# Altium schematic symbol library schlib_by_wjy.SchLib: 39 symbols
Pins are listed as number, name and electrical type; pins without a type are passive.

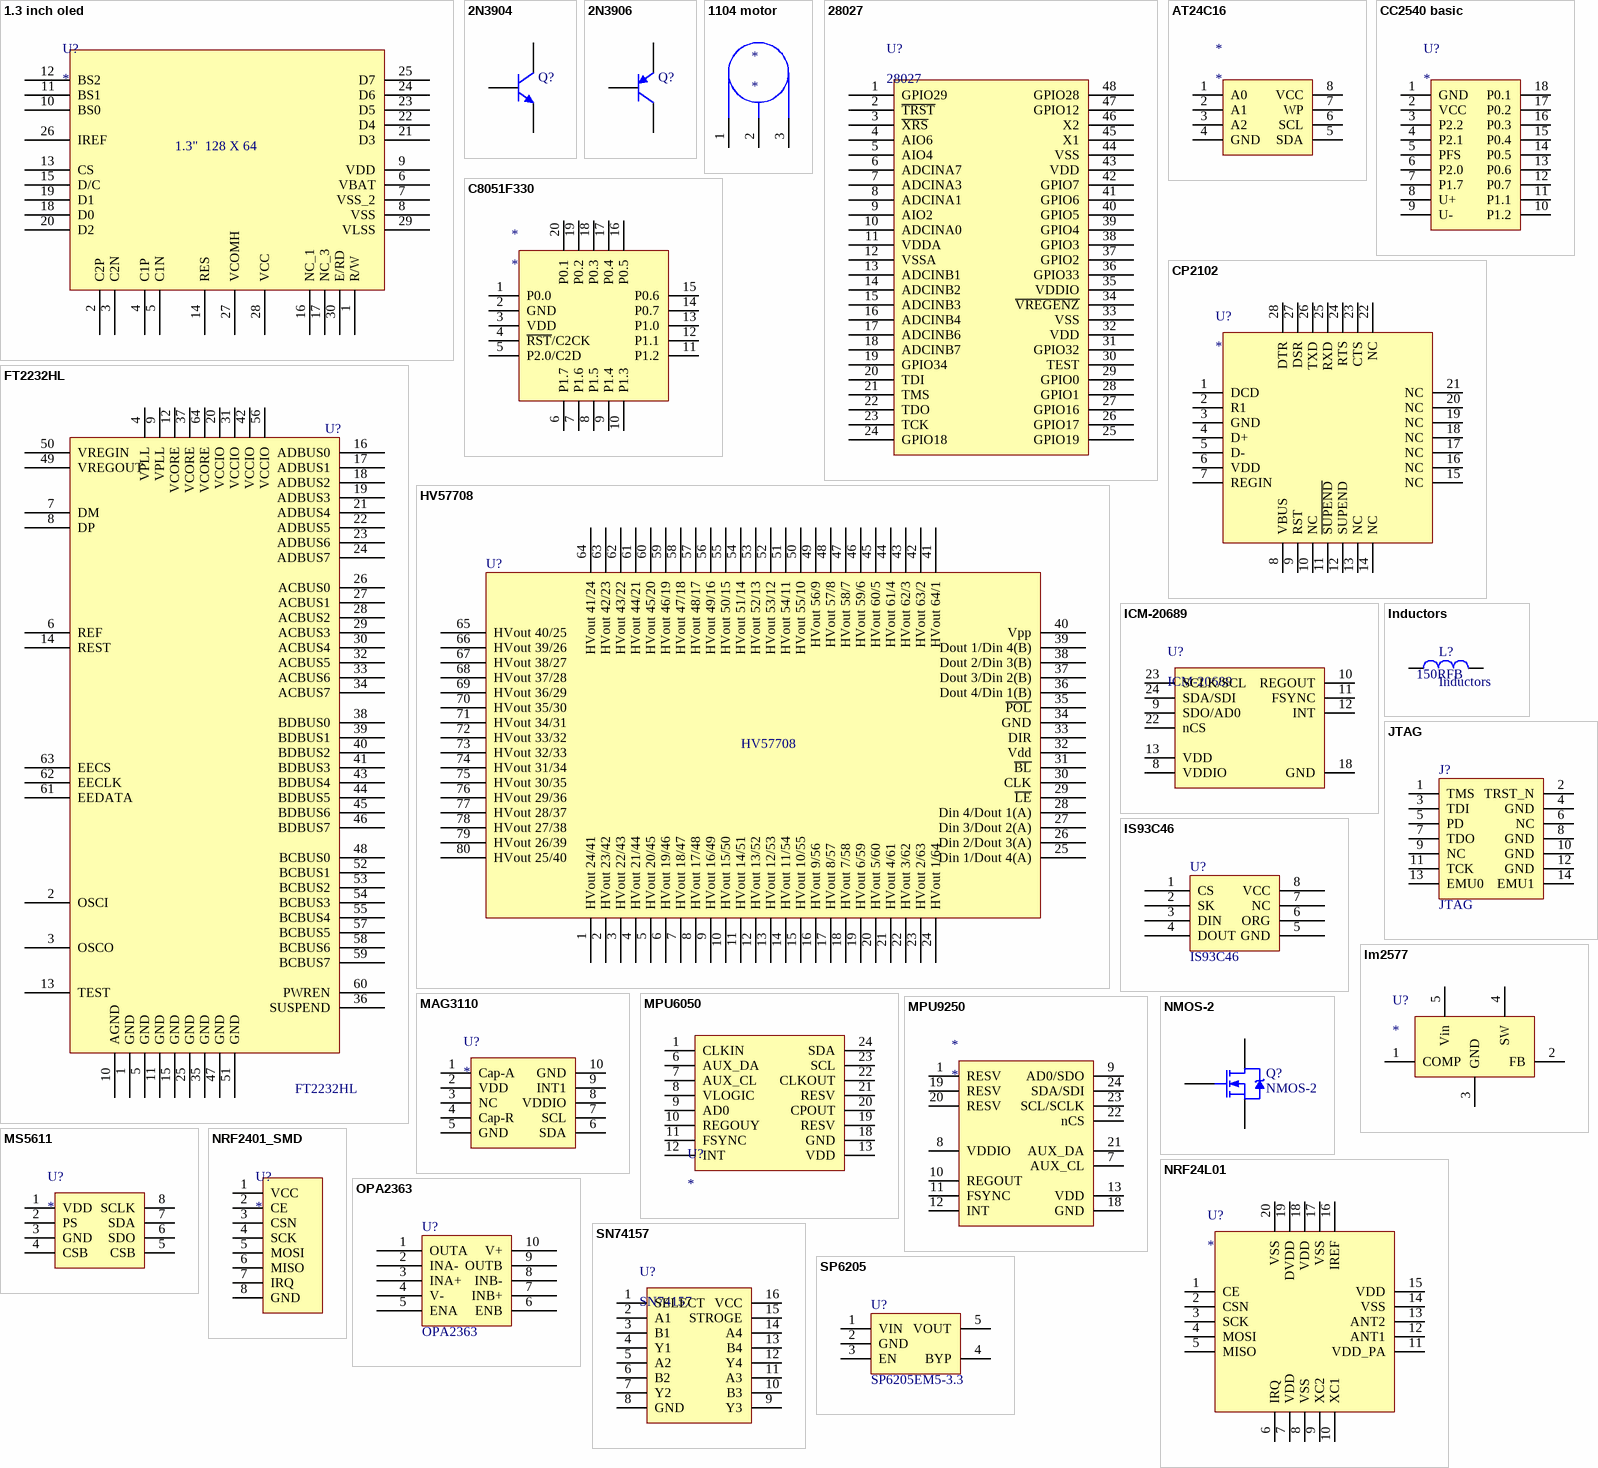
[diagram p0: symbols 1.3 inch oled to SP6205]

## 1.3 inch oled
designator U?
footprint OLED (Footprint not found)
pins: 1 R/W, 2 C2P, 3 C2N, 4 C1P, 5 C1N, 6 VBAT, 7 VSS_2, 8 VSS, 9 VDD, 10 BS0, 11 BS1, 12 BS2, 13 CS, 14 RES, 15 D/C, 16 NC_1, 17 NC_3, 18 D0, 19 D1, 20 D2, 21 D3, 22 D4, 23 D5, 24 D6, 25 D7, 26 IREF, 27 VCOMH, 28 VCC, 29 VLSS, 30 E/RD
text: 1.3"  128 X 64

## 2N3904
designator Q?
NPN General Purpose Amplifier; Published: 8-Jun-2000; LatestRevisionDate: 15-Jan-2003; LatestRevisionNote: PCB Footprint 'BCY-W3/D4.7' replaced; DatasheetDocument: 1997; PackageDocument: Sep-1998; PackageReference: TO-92A; Publisher: Altium Limited; Code_JEDEC: TO-92A; ComponentLink1Description: Manufacturer Link; ComponentLink1URL: http://www.fairchildsemi.com/; ComponentLink2Description: Datasheet; ComponentLink2URL: http://www.fairchildsemi.com/ds/2N%2F2N3904.pdf
footprint SOT23 (SOT-23; 3 Leads; Body 3.1 x 2.5 mm, inc. leads (LxW max), Alternate Lead Configuration)
pins: 1 B, 2 E, 3 C

## 2N3906
designator Q?
PNP General Purpose Amplifier; Published: 8-Jun-2000; LatestRevisionDate: 15-Jan-2003; LatestRevisionNote: PCB Footprint 'BCY-W3/D4.7' replaced; DatasheetDocument: 1997; PackageDocument: Sep-1998; PackageReference: TO-92A; Publisher: Altium Limited; Code_JEDEC: TO-92A; ComponentLink1Description: Manufacturer Link; ComponentLink1URL: http://www.fairchildsemi.com/; ComponentLink2Description: Datasheet; ComponentLink2URL: http://www.fairchildsemi.com/ds/2N%2F2N3906.pdf
footprint SOT23 (SOT-23; 3 Leads; Body 3.1 x 2.5 mm, inc. leads (LxW max), Alternate Lead Configuration)
pins: 1 B, 2 E, 3 C

## 1104 motor
designator *
pins: 1, 2, 3

## 28027
designator U?
footprint LQFP48
pins: 1 GPIO29, 2 ~{TRST}, 3 ~{XRS}, 4 AIO6, 5 AIO4, 6 ADCINA7, 7 ADCINA3, 8 ADCINA1, 9 AIO2, 10 ADCINA0, 11 VDDA, 12 VSSA, 13 ADCINB1, 14 ADCINB2, 15 ADCINB3, 16 ADCINB4, 17 ADCINB6, 18 ADCINB7, 19 GPIO34, 20 TDI, 21 TMS, 22 TDO, 23 TCK, 24 GPIO18, 25 GPIO19, 26 GPIO17, 27 GPIO16, 28 GPIO1, 29 GPIO0, 30 TEST, 31 GPIO32, 32 VDD, 33 VSS, 34 ~{VREGENZ}, 35 VDDIO, 36 GPIO33, 37 GPIO2, 38 GPIO3, 39 GPIO4, 40 GPIO5, 41 GPIO6, 42 GPIO7, 43 VDD, 44 VSS, 45 X1, 46 X2, 47 GPIO12, 48 GPIO28

## AT24C16
designator *
footprint SO8 (Small Outline; 8 Leads; Body Width 3.9 mm; Pitch 1.27 mm)
pins: 1 A0, 2 A1, 3 A2, 4 GND, 5 SDA, 6 SCL, 7 WP, 8 VCC

## C8051F330
designator *
footprint QFN20
pins: 1 P0.0, 2 GND, 3 VDD, 4 ~{RST}/C2CK, 5 P2.0/C2D, 6 P1.7, 7 P1.6, 8 P1.5, 9 P1.4, 10 P1.3, 11 P1.2, 12 P1.1, 13 P1.0, 14 P0.7, 15 P0.6, 16 P0.5, 17 P0.4, 18 P0.3, 19 P0.2, 20 P0.1

## CC2540 basic
designator U?
footprint CC2540 B
pins: 1 GND, 2 VCC, 3 P2.2, 4 P2.1, 5 PFS, 6 P2.0, 7 P1.7, 8 U+, 9 U-, 10 P1.2, 11 P1.1, 12 P0.7, 13 P0.6, 14 P0.5, 15 P0.4, 16 P0.3, 17 P0.2, 18 P0.1

## CP2102
designator U?
footprint QFN28
pins: 1 DCD, 2 R1, 3 GND, 4 D+, 5 D-, 6 VDD, 7 REGIN, 8 VBUS, 9 RST, 10 NC, 11 ~{SUPEND}, 12 SUPEND, 13 NC, 14 NC, 15 NC, 16 NC, 17 NC, 18 NC, 19 NC, 20 NC, 21 NC, 22 NC, 23 CTS, 24 RTS, 25 RXD, 26 TXD, 27 DSR, 28 DTR

## FT2232HL
designator U?
footprint FT2232HL (TSQFP, 64-Leads, Body 12.2x12.2mm (max), Pitch 0.50mm, IPC Medium Density)
pins: 1 GND, 2 OSCI, 3 OSCO, 4 VPLL, 5 GND, 6 REF, 7 DM, 8 DP, 9 VPLL, 10 AGND, 11 GND, 12 VCORE, 13 TEST, 14 REST, 15 GND, 16 ADBUS0, 17 ADBUS1, 18 ADBUS2, 19 ADBUS3, 20 VCCIO, 21 ADBUS4, 22 ADBUS5, 23 ADBUS6, 24 ADBUS7, 25 GND, 26 ACBUS0, 27 ACBUS1, 28 ACBUS2, 29 ACBUS3, 30 ACBUS4, 31 VCCIO, 32 ACBUS5, 33 ACBUS6, 34 ACBUS7, 35 GND, 36 SUSPEND, 37 VCORE, 38 BDBUS0, 39 BDBUS1, 40 BDBUS2, 41 BDBUS3, 42 VCCIO, 43 BDBUS4, 44 BDBUS5, 45 BDBUS6, 46 BDBUS7, 47 GND, 48 BCBUS0, 49 VREGOUT, 50 VREGIN, 51 GND, 52 BCBUS1, 53 BCBUS2, 54 BCBUS3, 55 BCBUS4, 56 VCCIO, 57 BCBUS5, 58 BCBUS6, 59 BCBUS7, 60 PWREN, 61 EEDATA, 62 EECLK, 63 EECS, 64 VCORE

## HV57708
designator U?
4*16-Bit shift register
footprint PQFP80
pins: 1 HVout 24/41, 2 HVout 23/42, 3 HVout 22/43, 4 HVout 21/44, 5 HVout 20/45, 6 HVout 19/46, 7 HVout 18/47, 8 HVout 17/48, 9 HVout 16/49, 10 HVout 15/50, 11 HVout 14/51, 12 HVout 13/52, 13 HVout 12/53, 14 HVout 11/54, 15 HVout 10/55, 16 HVout 9/56, 17 HVout 8/57, 18 HVout 7/58, 19 HVout 6/59, 20 HVout 5/60, 21 HVout 4/61, 22 HVout 3/62, 23 HVout 2/63, 24 HVout 1/64, 25 Din 1/Dout 4(A), 26 Din 2/Dout 3(A), 27 Din 3/Dout 2(A), 28 Din 4/Dout 1(A), 29 ~{LE}, 30 CLK, 31 ~{BL}, 32 Vdd, 33 DIR, 34 GND, 35 ~{POL}, 36 Dout 4/Din 1(B), 37 Dout 3/Din 2(B), 38 Dout 2/Din 3(B), 39 Dout 1/Din 4(B), 40 Vpp, 41 HVout 64/1, 42 HVout 63/2, 43 HVout 62/3, 44 HVout 61/4, 45 HVout 60/5, 46 HVout 59/6, 47 HVout 58/7, 48 HVout 57/8, 49 HVout 56/9, 50 HVout 55/10, 51 HVout 54/11, 52 HVout 53/12, 53 HVout 52/13, 54 HVout 51/14, 55 HVout 50/15, 56 HVout 49/16, 57 HVout 48/17, 58 HVout 47/18, 59 HVout 46/19, 60 HVout 45/20, 61 HVout 44/21, 62 HVout 43/22, 63 HVout 42/23, 64 HVout 41/24, 65 HVout 40/25, 66 HVout 39/26, 67 HVout 38/27, 68 HVout 37/28, 69 HVout 36/29, 70 HVout 35/30, 71 HVout 34/31, 72 HVout 33/32, 73 HVout 32/33, 74 HVout 31/34, 75 HVout 30/35, 76 HVout 29/36, 77 HVout 28/37, 78 HVout 27/38, 79 HVout 26/39, 80 HVout 25/40

## ICM-20689
designator U?
footprint QFN24
pins: 8 VDDIO, 9 SDO/AD0, 10 REGOUT, 11 FSYNC, 12 INT, 13 VDD, 18 GND, 22 nCS, 23 SCLK/SCL, 24 SDA/SDI

## Inductors
designator L?  value 150RFB
footprint r0603 (R0603)
pins: 1, 2

## IS93C46
designator U?
footprint AT93C46
pins: 1 CS, 2 SK, 3 DIN, 4 DOUT, 5 GND, 6 ORG, 7 NC, 8 VCC

## JTAG
designator J?
footprint JTAG
pins: 1 TMS, 2 TRST_N, 3 TDI, 4 GND, 5 PD, 6 NC, 7 TDO, 8 GND, 9 NC, 10 GND, 11 TCK, 12 GND, 13 EMU0, 14 EMU1

## lm2577
designator U?
footprint TO-263
pins: 1 COMP, 2 FB, 3 GND, 4 SW, 5 Vin

## MAG3110
designator U?
footprint DFN10
pins: 1 Cap-A, 2 VDD, 3 NC, 4 Cap-R, 5 GND, 6 SDA, 7 SCL, 8 VDDIO, 9 INT1, 10 GND

## MPU6050
designator U?
footprint QFN24
pins: 1 CLKIN, 6 AUX_DA, 7 AUX_CL, 8 VLOGIC, 9 AD0, 10 REGOUY, 11 FSYNC, 12 INT, 13 VDD, 18 GND, 19 RESV, 20 CPOUT, 21 RESV, 22 CLKOUT, 23 SCL, 24 SDA

## MPU9250
designator *
footprint qfn24
pins: 1 RESV, 7 AUX_CL, 8 VDDIO, 9 AD0/SDO, 10 REGOUT, 11 FSYNC, 12 INT, 13 VDD, 18 GND, 19 RESV, 20 RESV, 21 AUX_DA, 22 nCS, 23 SCL/SCLK, 24 SDA/SDI

## MS5611
designator U?
footprint MS5611
pins: 1 VDD, 2 PS, 3 GND, 4 CSB, 5 CSB, 6 SDO, 7 SDA, 8 SCLK

## NMOS-2
designator Q?
N-Channel Power MOSFET; Note: Pin 2 is electrically connected to pin 4.; Published: 8-Jun-2000; LatestRevisionDate: 17-Jul-2002; LatestRevisionNote: Re-released for DXP Platform.; DatasheetDocument: PD-9.814; PackageReference: TO-220AB; Publisher: Altium Limited; Code_JEDEC: TO-220-AB; ComponentLink1Description: Manufacturer Link; ComponentLink1URL: http://www.irf.com/
footprint SOT23 (SOT-23; 3 Leads; Body 3.1 x 2.5 mm, inc. leads (LxW max), Alternate Lead Configuration)
pins: 1 G, 2 S, 3 D

## NRF24L01
designator U?
footprint QFN20
pins: 1 CE, 2 CSN, 3 SCK, 4 MOSI, 5 MISO, 6 IRQ, 7 VDD, 8 VSS, 9 XC2, 10 XC1, 11 VDD_PA, 12 ANT1, 13 ANT2, 14 VSS, 15 VDD, 16 IREF, 17 VSS, 18 VDD, 19 DVDD, 20 VSS

## NRF2401_SMD
designator U?
footprint NRF2401_SMD
pins: 1 VCC, 2 CE, 3 CSN, 4 SCK, 5 MOSI, 6 MISO, 7 IRQ, 8 GND

## OPA2363
designator U?
footprint OPA2363 (TSSOP, 10-Leads, Body 3.1x3.1mm (max), Pitch 0.50mm, IPC Medium Density)
pins: 1 OUTA, 2 INA-, 3 INA+, 4 V-, 5 ENA, 6 ENB, 7 INB+, 8 INB-, 9 OUTB, 10 V+

## SN74157
designator U?
footprint DIP16 (Footprint not found)
pins: 1 SELECT, 2 A1, 3 B1, 4 Y1, 5 A2, 6 B2, 7 Y2, 8 GND, 9 Y3, 10 B3, 11 A3, 12 Y4, 13 B4, 14 A4, 15 STROGE, 16 VCC

## SP6205
designator U?, comment SP6205EM5-3.3
AD3330
footprint SOT-23-5 (Footprint not found)
pins: 1 VIN, 2 GND, 3 EN, 4 BYP, 5 VOUT

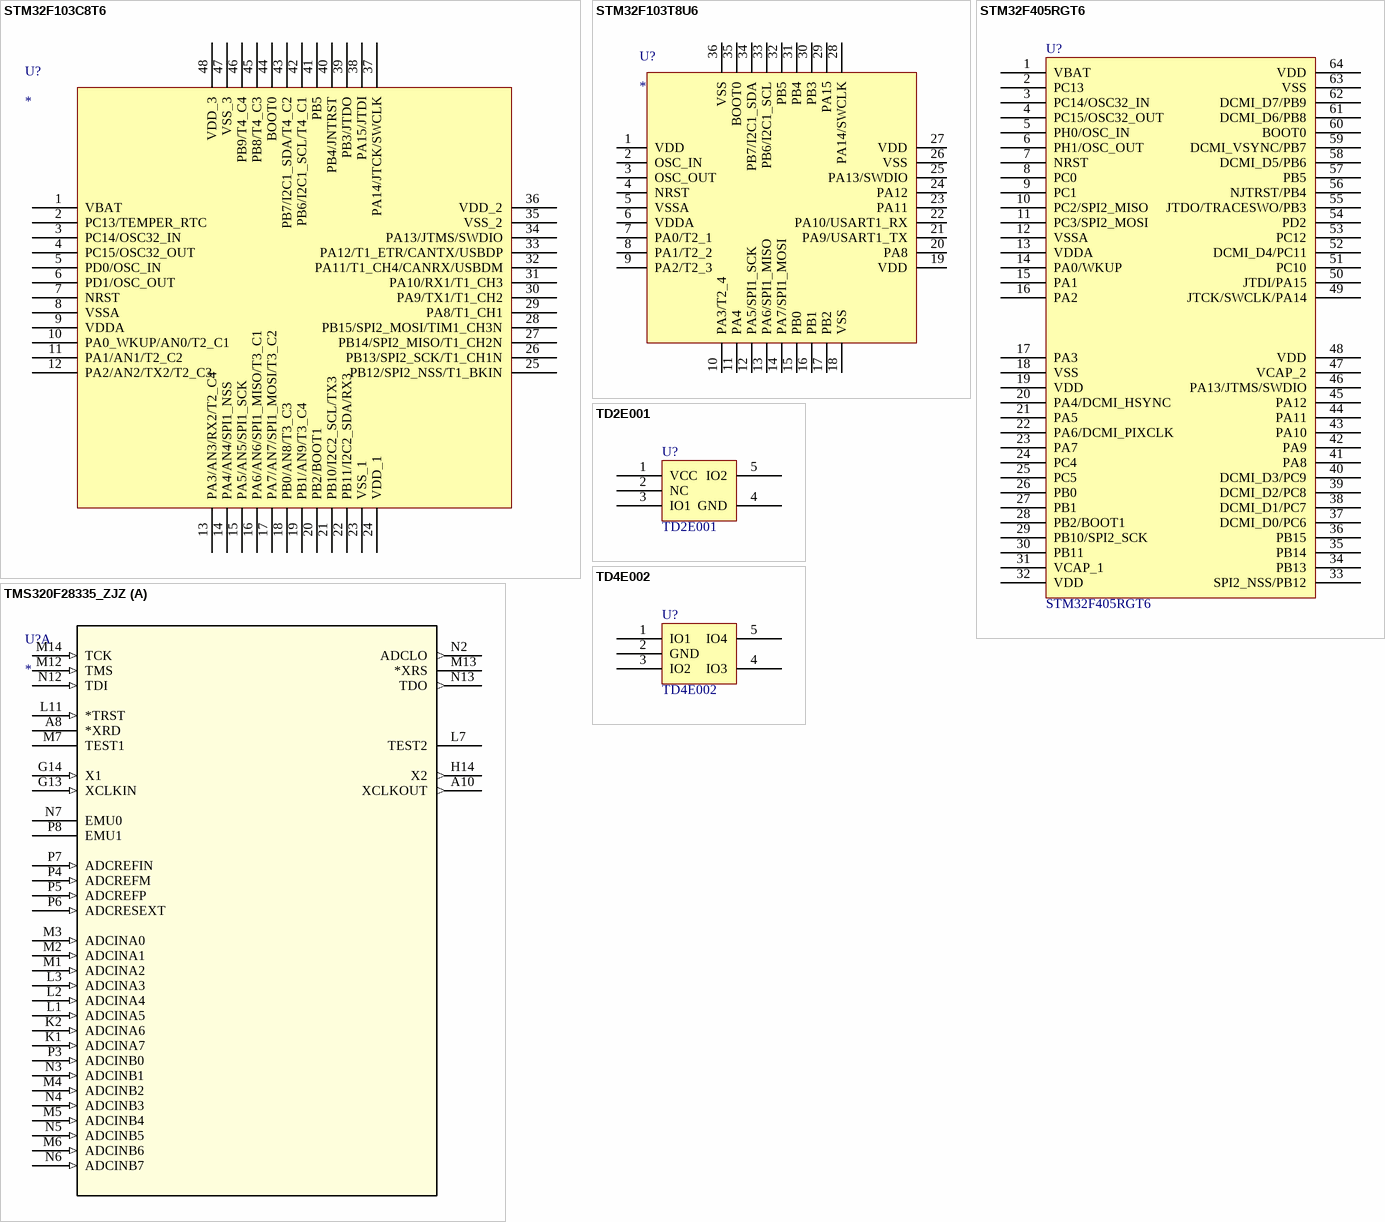
[diagram p1: symbols STM32F103C8T6 to TMS320F28335_ZJZ]

## STM32F103C8T6
designator U?
footprint LQFP48
pins: 1 VBAT, 2 PC13/TEMPER_RTC, 3 PC14/OSC32_IN, 4 PC15/OSC32_OUT, 5 PD0/OSC_IN, 6 PD1/OSC_OUT, 7 NRST, 8 VSSA, 9 VDDA, 10 PA0_WKUP/AN0/T2_C1, 11 PA1/AN1/T2_C2, 12 PA2/AN2/TX2/T2_C3, 13 PA3/AN3/RX2/T2_C4, 14 PA4/AN4/SPI1_NSS, 15 PA5/AN5/SPI1_SCK, 16 PA6/AN6/SPI1_MISO/T3_C1, 17 PA7/AN7/SPI1_MOSI/T3_C2, 18 PB0/AN8/T3_C3, 19 PB1/AN9/T3_C4, 20 PB2/BOOT1, 21 PB10/I2C2_SCL/TX3, 22 PB11/I2C2_SDA/RX3, 23 VSS_1, 24 VDD_1, 25 PB12/SPI2_NSS/T1_BKIN, 26 PB13/SPI2_SCK/T1_CH1N, 27 PB14/SPI2_MISO/T1_CH2N, 28 PB15/SPI2_MOSI/TIM1_CH3N, 29 PA8/T1_CH1, 30 PA9/TX1/T1_CH2, 31 PA10/RX1/T1_CH3, 32 PA11/T1_CH4/CANRX/USBDM, 33 PA12/T1_ETR/CANTX/USBDP, 34 PA13/JTMS/SWDIO, 35 VSS_2, 36 VDD_2, 37 PA14/JTCK/SWCLK, 38 PA15/JTDI, 39 PB3/JTDO, 40 PB4/JNTRST, 41 PB5, 42 PB6/I2C1_SCL/T4_C1, 43 PB7/I2C1_SDA/T4_C2, 44 BOOT0, 45 PB8/T4_C3, 46 PB9/T4_C4, 47 VSS_3, 48 VDD_3

## STM32F103T8U6
designator U?
footprint VFQFPN36 (Footprint not found)
pins: 1 VDD, 2 OSC_IN, 3 OSC_OUT, 4 NRST, 5 VSSA, 6 VDDA, 7 PA0/T2_1, 8 PA1/T2_2, 9 PA2/T2_3, 10 PA3/T2_4, 11 PA4, 12 PA5/SPI1_SCK, 13 PA6/SPI1_MISO, 14 PA7/SPI1_MOSI, 15 PB0, 16 PB1, 17 PB2, 18 VSS, 19 VDD, 20 PA8, 21 PA9/USART1_TX, 22 PA10/USART1_RX, 23 PA11, 24 PA12, 25 PA13/SWDIO, 26 VSS, 27 VDD, 28 PA14/SWCLK, 29 PA15, 30 PB3, 31 PB4, 32 PB5, 33 PB6/I2C1_SCL, 34 PB7/I2C1_SDA, 35 BOOT0, 36 VSS

## STM32F405RGT6
designator U?
footprint LQFP64 (LQFP, 64-Leads, Body 10.00x10.00mm, Pitch 0.50mm, IPC Medium Density)
pins: 1 VBAT, 2 PC13, 3 PC14/OSC32_IN, 4 PC15/OSC32_OUT, 5 PH0/OSC_IN, 6 PH1/OSC_OUT, 7 NRST, 8 PC0, 9 PC1, 10 PC2/SPI2_MISO, 11 PC3/SPI2_MOSI, 12 VSSA, 13 VDDA, 14 PA0/WKUP, 15 PA1, 16 PA2, 17 PA3, 18 VSS, 19 VDD, 20 PA4/DCMI_HSYNC, 21 PA5, 22 PA6/DCMI_PIXCLK, 23 PA7, 24 PC4, 25 PC5, 26 PB0, 27 PB1, 28 PB2/BOOT1, 29 PB10/SPI2_SCK, 30 PB11, 31 VCAP_1, 32 VDD, 33 SPI2_NSS/PB12, 34 PB13, 35 PB14, 36 PB15, 37 DCMI_D0/PC6, 38 DCMI_D1/PC7, 39 DCMI_D2/PC8, 40 DCMI_D3/PC9, 41 PA8, 42 PA9, 43 PA10, 44 PA11, 45 PA12, 46 PA13/JTMS/SWDIO, 47 VCAP_2, 48 VDD, 49 JTCK/SWCLK/PA14, 50 JTDI/PA15, 51 PC10, 52 DCMI_D4/PC11, 53 PC12, 54 PD2, 55 JTDO/TRACESWO/PB3, 56 NJTRST/PB4, 57 PB5, 58 DCMI_D5/PB6, 59 DCMI_VSYNC/PB7, 60 BOOT0, 61 DCMI_D6/PB8, 62 DCMI_D7/PB9, 63 VSS, 64 VDD

## TD2E001
designator U?
footprint TPD2E001 (SOT23, 5-Leads, Body 1.7x1.7mm (max), Pitch 0.50mm, IPC Medium Density)
pins: 1 VCC, 2 NC, 3 IO1, 4 GND, 5 IO2

## TD4E002
designator U?
footprint TPD4E002 (SOT23, 5-Leads, Body 1.7x1.7mm (max), Pitch 0.50mm, IPC Medium Density)
pins: 1 IO1, 2 GND, 3 IO2, 4 IO3, 5 IO4

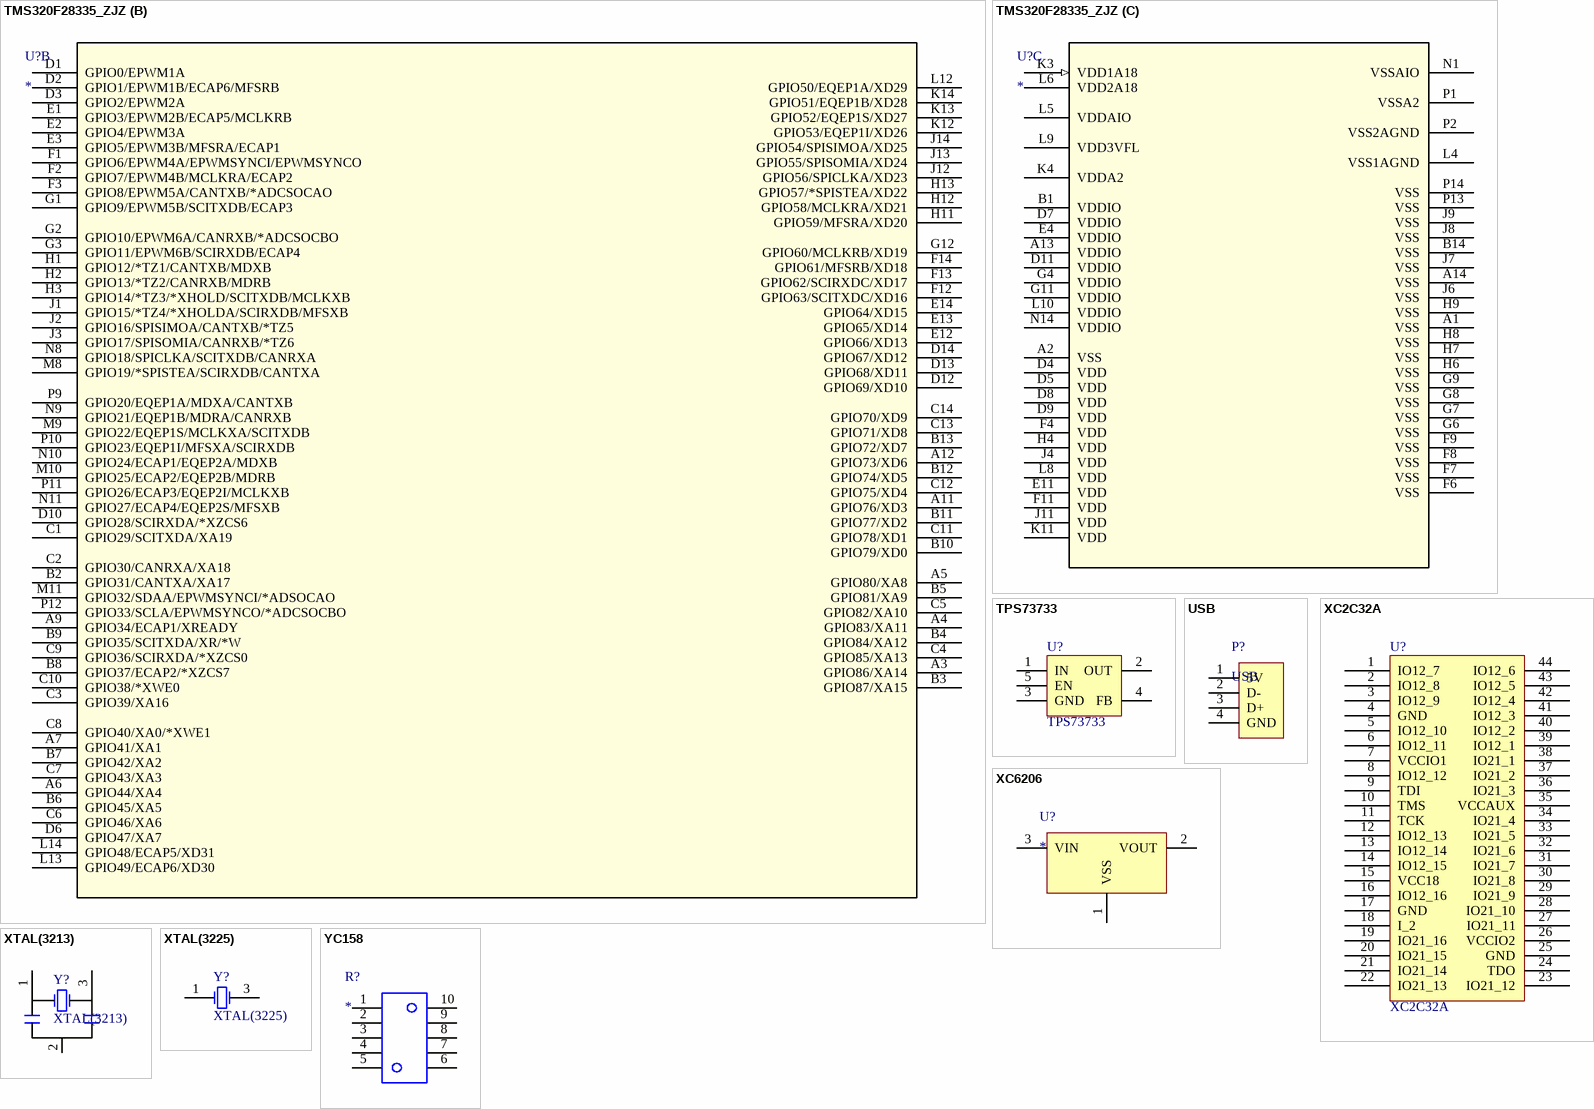
[diagram p2: symbols TMS320F28335_ZJZ to YC158]

## TMS320F28335_ZJZ
designator U?
Imported; Manufacturer: Texas Instruments; GENERIC_PART_NUMBER: TMS320F28335; Manufacturer_Part_Number: tms320f28335_zjz_176; INDUSTRY_STD_PKG_TYPE: BGA; FAMILY_NAME: 28X DELFINO&#153; FLOATING-POINT SERIES; PIN_COUNT: 176; PACKAGE_DESIGNATOR: ZJZ; Vendor: Texas Instuments; Datasheet_URL: http://www.ti.com/lit/gpn/TMS320F28335; Value: Value; Type: Type; RefDes: RefDes
footprint ZJZ176
part A pins: A8 *XRD, A10 XCLKOUT (out), G13 XCLKIN (in), G14 X1 (in), H14 X2 (out), K1 ADCINA7 (in), K2 ADCINA6 (in), L1 ADCINA5 (in), L2 ADCINA4 (in), L3 ADCINA3 (in), L7 TEST2, L11 *TRST (in), M1 ADCINA2 (in), M2 ADCINA1 (in), M3 ADCINA0 (in), M4 ADCINB2 (in), M5 ADCINB4 (in), M6 ADCINB6 (in), M7 TEST1, M12 TMS (in), M13 *XRS, M14 TCK (in), N2 ADCLO (out), N3 ADCINB1 (in), N4 ADCINB3 (in), N5 ADCINB5 (in), N6 ADCINB7 (in), N7 EMU0, N12 TDI (in), N13 TDO (out), P3 ADCINB0 (in), P4 ADCREFM (in), P5 ADCREFP (in), P6 ADCRESEXT (in), P7 ADCREFIN (in), P8 EMU1
part B pins: A3 GPIO86/XA14, A4 GPIO83/XA11, A5 GPIO80/XA8, A6 GPIO44/XA4, A7 GPIO41/XA1, A9 GPIO34/ECAP1/XREADY, A11 GPIO76/XD3, A12 GPIO73/XD6, B2 GPIO31/CANTXA/XA17, B3 GPIO87/XA15, B4 GPIO84/XA12, B5 GPIO81/XA9, B6 GPIO45/XA5, B7 GPIO42/XA2, B8 GPIO37/ECAP2/*XZCS7, B9 GPIO35/SCITXDA/XR/*W, B10 GPIO79/XD0, B11 GPIO77/XD2, B12 GPIO74/XD5, B13 GPIO72/XD7, C1 GPIO29/SCITXDA/XA19, C2 GPIO30/CANRXA/XA18, C3 GPIO39/XA16, C4 GPIO85/XA13, C5 GPIO82/XA10, C6 GPIO46/XA6, C7 GPIO43/XA3, C8 GPIO40/XA0/*XWE1, C9 GPIO36/SCIRXDA/*XZCS0, C10 GPIO38/*XWE0, C11 GPIO78/XD1, C12 GPIO75/XD4, C13 GPIO71/XD8, C14 GPIO70/XD9, D1 GPIO0/EPWM1A, D2 GPIO1/EPWM1B/ECAP6/MFSRB, D3 GPIO2/EPWM2A, D6 GPIO47/XA7, D10 GPIO28/SCIRXDA/*XZCS6, D12 GPIO69/XD10, D13 GPIO68/XD11, D14 GPIO67/XD12, E1 GPIO3/EPWM2B/ECAP5/MCLKRB, E2 GPIO4/EPWM3A, E3 GPIO5/EPWM3B/MFSRA/ECAP1, E12 GPIO66/XD13, E13 GPIO65/XD14, E14 GPIO64/XD15, F1 GPIO6/EPWM4A/EPWMSYNCI/EPWMSYNCO, F2 GPIO7/EPWM4B/MCLKRA/ECAP2, F3 GPIO8/EPWM5A/CANTXB/*ADCSOCAO, F12 GPIO63/SCITXDC/XD16, F13 GPIO62/SCIRXDC/XD17, F14 GPIO61/MFSRB/XD18, G1 GPIO9/EPWM5B/SCITXDB/ECAP3, G2 GPIO10/EPWM6A/CANRXB/*ADCSOCBO, G3 GPIO11/EPWM6B/SCIRXDB/ECAP4, G12 GPIO60/MCLKRB/XD19, H1 GPIO12/*TZ1/CANTXB/MDXB, H2 GPIO13/*TZ2/CANRXB/MDRB, H3 GPIO14/*TZ3/*XHOLD/SCITXDB/MCLKXB, H11 GPIO59/MFSRA/XD20, H12 GPIO58/MCLKRA/XD21, H13 GPIO57/*SPISTEA/XD22, J1 GPIO15/*TZ4/*XHOLDA/SCIRXDB/MFSXB, J2 GPIO16/SPISIMOA/CANTXB/*TZ5, J3 GPIO17/SPISOMIA/CANRXB/*TZ6, J12 GPIO56/SPICLKA/XD23, J13 GPIO55/SPISOMIA/XD24, J14 GPIO54/SPISIMOA/XD25, K12 GPIO53/EQEP1I/XD26, K13 GPIO52/EQEP1S/XD27, K14 GPIO51/EQEP1B/XD28, L12 GPIO50/EQEP1A/XD29, L13 GPIO49/ECAP6/XD30, L14 GPIO48/ECAP5/XD31, M8 GPIO19/*SPISTEA/SCIRXDB/CANTXA, M9 GPIO22/EQEP1S/MCLKXA/SCITXDB, M10 GPIO25/ECAP2/EQEP2B/MDRB, M11 GPIO32/SDAA/EPWMSYNCI/*ADSOCAO, N8 GPIO18/SPICLKA/SCITXDB/CANRXA, N9 GPIO21/EQEP1B/MDRA/CANRXB, N10 GPIO24/ECAP1/EQEP2A/MDXB, N11 GPIO27/ECAP4/EQEP2S/MFSXB, P9 GPIO20/EQEP1A/MDXA/CANTXB, P10 GPIO23/EQEP1I/MFSXA/SCIRXDB, P11 GPIO26/ECAP3/EQEP2I/MCLKXB, P12 GPIO33/SCLA/EPWMSYNCO/*ADCSOCBO
part C pins: A1 VSS (power), A2 VSS (power), A13 VDDIO (power), A14 VSS (power), B1 VDDIO (power), B14 VSS (power), D4 VDD (power), D5 VDD (power), D7 VDDIO (power), D8 VDD (power), D9 VDD (power), D11 VDDIO (power), E4 VDDIO (power), E11 VDD (power), F4 VDD (power), F6 VSS (power), F7 VSS (power), F8 VSS (power), F9 VSS (power), F11 VDD (power), G4 VDDIO (power), G6 VSS (power), G7 VSS (power), G8 VSS (power), G9 VSS (power), G11 VDDIO (power), H4 VDD (power), H6 VSS (power), H7 VSS (power), H8 VSS (power), H9 VSS (power), J4 VDD (power), J6 VSS (power), J7 VSS (power), J8 VSS (power), J9 VSS (power), J11 VDD (power), K3 VDD1A18 (in), K4 VDDA2 (power), K11 VDD (power), L4 VSS1AGND (power), L5 VDDAIO (power), L6 VDD2A18 (power), L8 VDD (power), L9 VDD3VFL (power), L10 VDDIO (power), N1 VSSAIO (power), N14 VDDIO (power), P1 VSSA2 (power), P2 VSS2AGND (power), P13 VSS (power), P14 VSS (power)

## TPS73733
designator U?
footprint 73733 (SOT223, 6-Leads, Body 6.6x7.3mm (max), Pitch 1.27mm, IPC Medium Density)
pins: 1 IN, 2 OUT, 3 GND, 4 FB, 5 EN

## USB
designator P?
footprint usb
pins: 1 5V, 2 D-, 3 D+, 4 GND

## XC2C32A
designator U?
footprint XC2C32 (TQFP, 44-Leads, Body 12.0x12.0mm (max), Pitch 0.80mm, IPC Medium Density)
pins: 1 IO12_7, 2 IO12_8, 3 IO12_9, 4 GND, 5 IO12_10, 6 IO12_11, 7 VCCIO1, 8 IO12_12, 9 TDI, 10 TMS, 11 TCK, 12 IO12_13, 13 IO12_14, 14 IO12_15, 15 VCC18, 16 IO12_16, 17 GND, 18 I_2, 19 IO21_16, 20 IO21_15, 21 IO21_14, 22 IO21_13, 23 IO21_12, 24 TDO, 25 GND, 26 VCCIO2, 27 IO21_11, 28 IO21_10, 29 IO21_9, 30 IO21_8, 31 IO21_7, 32 IO21_6, 33 IO21_5, 34 IO21_4, 35 VCCAUX, 36 IO21_3, 37 IO21_2, 38 IO21_1, 39 IO12_1, 40 IO12_2, 41 IO12_3, 42 IO12_4, 43 IO12_5, 44 IO12_6

## XC6206
designator U?
footprint SOT23 (SOT-23; 3 Leads; Body 3.1 x 2.5 mm, inc. leads (LxW max), Alternate Lead Configuration)
pins: 1 VSS, 2 VOUT, 3 VIN

## XTAL(3213)
designator Y?
Crystal Oscillator; Published: 8-Jun-2000; LatestRevisionDate: 17-Jul-2002; LatestRevisionNote: Re-released for DXP Platform.; PackageReference: R38; Publisher: Altium Limited
footprint Y3213
pins: 1 OSC1, 2 GND, 3 OSC2

## XTAL(3225)
designator Y?
Crystal Oscillator; Published: 8-Jun-2000; LatestRevisionDate: 17-Jul-2002; LatestRevisionNote: Re-released for DXP Platform.; PackageReference: R38; Publisher: Altium Limited
footprint Y3225
pins: 1 OSC1, 3 OSC2

## YC158
designator R?
10P8R
footprint YC158
pins: 1, 2, 3, 4, 5, 6, 7, 8, 9, 10